# EAGLE library part MB95R203P-G-SH-JNE2 (library Fujitsu_By_element14_Batch_1)
8-bit Proprietary Microcontrollers
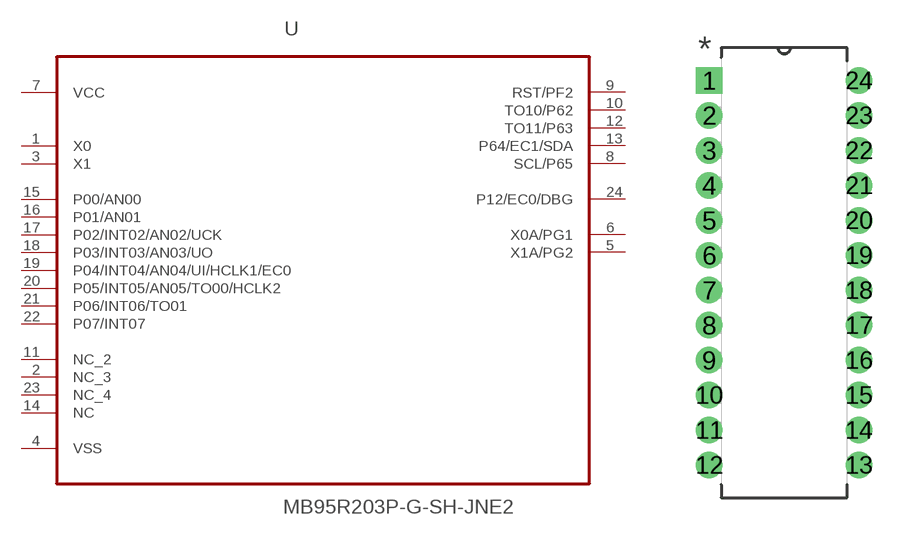
[diagram p7: symbol with the pads of DIP254P762X480-24; footprint DIP254P762X480-24]

Designator prefix U

## MB95R203P-G-SH-JNE2 (MPN: MB95R203P-G-SH-JNE2; OC_FARNELL: 1831960; OC_NEWARK: -; PACKAGE: DIP-24; SUPPLIER: FUJITSU)  [DIP254P762X480-24]
1  X0  in
2  NC_3  nc
3  X1  in
4  VSS  pwr
5  X1A/PG2
6  X0A/PG1
7  VCC  pwr
8  SCL/P65
9  RST/PF2
10  TO10/P62
11  NC_2  nc
12  TO11/P63
13  P64/EC1/SDA
14  NC  nc
15  P00/AN00
16  P01/AN01
17  P02/INT02/AN02/UCK
18  P03/INT03/AN03/UO
19  P04/INT04/AN04/UI/HCLK1/EC0
20  P05/INT05/AN05/TO00/HCLK2
21  P06/INT06/TO01
22  P07/INT07
23  NC_4  nc
24  P12/EC0/DBG

## Footprint DIP254P762X480-24 (pad centres in mm)
drill 0.838 square: 1 -7.62,19.558
drill 0.838: 2 -7.62,17.78; 3 -7.62,16.002; 4 -7.62,14.224; 5 -7.62,12.446; 6 -7.62,10.668; 7 -7.62,8.89; 8 -7.62,7.112; 9 -7.62,5.334; 10 -7.62,3.556; 11 -7.62,1.778; 12 -7.62,0; 13 0,0; 14 0,1.778; 15 0,3.556; 16 0,5.334; 17 0,7.112; 18 0,8.89; 19 0,10.668; 20 0,12.446; 21 0,14.224; 22 0,16.002; 23 0,17.78; 24 0,19.558